# EAGLE library part L664A (library CEDTv78)
16 by 16 LED Matrix
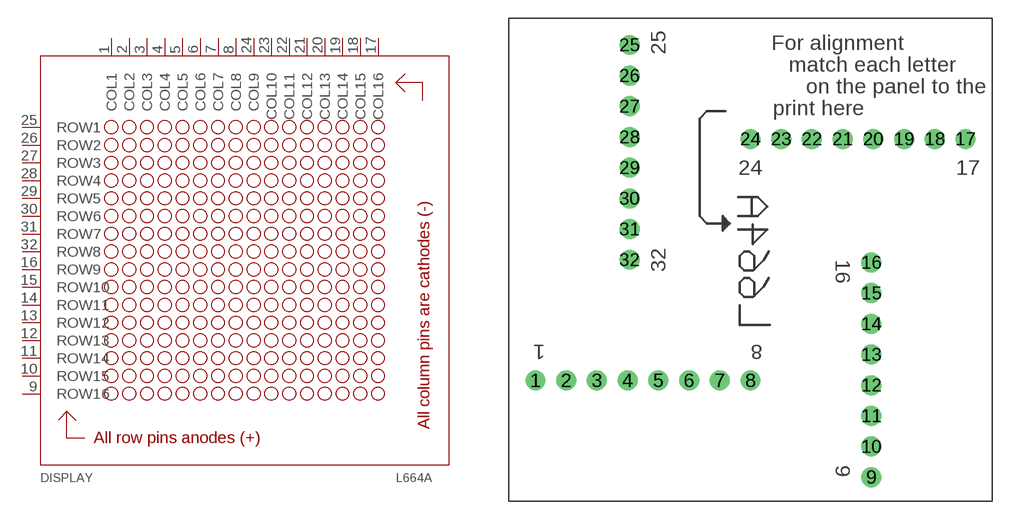
[diagram p14: symbol with the pads of L664A; footprint L664A]

Designator prefix DISPLAY

## L664A  [L664A]
1  COL1
2  COL2
3  COL3
4  COL4
5  COL5
6  COL6
7  COL7
8  COL8
9  ROW16
10  ROW15
11  ROW14
12  ROW13
13  ROW12
14  ROW11
15  ROW10
16  ROW9
17  COL16
18  COL15
19  COL14
20  COL13
21  COL12
22  COL11
23  COL10
24  COL9
25  ROW1
26  ROW2
27  ROW3
28  ROW4
29  ROW5
30  ROW6
31  ROW7
32  ROW8

## Footprint L664A (pad centres in mm)
drill 1.1: 1 2.22,10; 2 4.76,10; 3 7.3,10; 4 9.84,10; 5 12.38,10; 6 14.92,10; 7 17.46,10; 8 20,10; 9 30,2; 10 30,4.54; 11 30,7.08; 12 30,9.62; 13 30,12.16; 14 30,14.7; 15 30,17.24; 16 30,19.78; 17 37.78,30; 18 35.24,30; 19 32.7,30; 20 30.16,30; 21 27.62,30; 22 25.08,30; 23 22.54,30; 24 20,30; 25 10,37.78; 26 10,35.24; 27 10,32.7; 28 10,30.16; 29 10,27.62; 30 10,25.08; 31 10,22.54; 32 10,20